# Altium integrated library sd_card.IntLib: 1 symbol
Pins are listed as number, name and electrical type; pins without a type are passive.

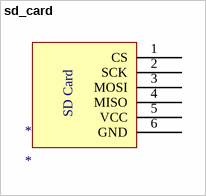
[diagram p0: symbol sd_card]

## sd_card
designator *
footprint sd_card
pins: 1 CS, 2 SCK, 3 MOSI, 4 MISO, 5 VCC, 6 GND
text: SD Card